# Altium schematic symbol library KIA SemiConductors .SchLib: 1 symbol
Pins are listed as number, name and electrical type; pins without a type are passive.

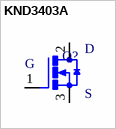
[diagram p0: symbol KND3403A]

## KND3403A
designator Q?
N-CHANNEL MOSFET
footprint TO252
pins: 1 G, 2 D, 3 S